# Altium integrated library DPC-10-440.IntLib: 1 symbol
Pins are listed as number, name and electrical type; pins without a type are passive.

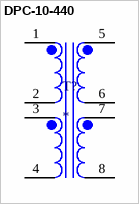
[diagram p0: symbol DPC-10-440]

## DPC-10-440
designator T?
Low Power Miniature Transformer | 4.4VA Power | 115V/230V Input | 10VCT Output Series; MF: Signal Transformer; MP: DPC-10-440; SnapEDA_Link: https://www.snapeda.com/parts/DPC-10-440/Signal+Transformer/view-part/?ref=snap; Package: None; Value: *; Check_prices: https://www.snapeda.com/parts/DPC-10-440/Signal+Transformer/view-part/?ref=eda
footprint XFMR_DPC-10-440
pins: 1, 2, 3, 4, 5, 6, 7, 8